# Altium schematic symbol library A.Shelestov_Batteries.SchLib: 3 symbols
Pins are listed as number, name and electrical type; pins without a type are passive.

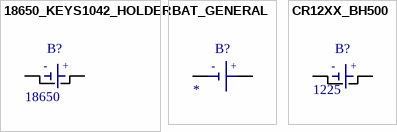
[diagram p0: symbols 18650_KEYS1042_HOLDER to CR12XX_BH500]

## 18650_KEYS1042_HOLDER
designator B?  Size: 18650
18650 Li-ion Battery Holder; Price: None; PriceKosmodromUAH: 19,5; Kosmodrom: http://www.kosmodrom.com.ua/el.php?name=KEYS1042
footprint 18650-COMBI
footprint 18650-KEYSTONE-1042
pins: NEG, POS
text: -; +

## BAT_GENERAL
designator B?
Coin Cell Battery 3V 12 X 2.5 mm 48mA; MP: BR1225; MF: Panasonic Battery; Availability: Unavailable; Price: None; SnapEDA_Link: https://www.snapeda.com/parts/BR1225/Panasonic/view-part/?ref=snap; Package: Panasonic Battery; Size: *
footprint 18650-COMBI
footprint 18650-KEYSTONE-1042
footprint BC2001-CR2032
footprint BH500-CR1216/20/25-COMB
footprint BR1225_HORIZ
pins: NEG, POS
text: -; +

## CR12XX_BH500
designator B?  Size: 1225
Coin Cell Battery 3V 12 X 2.5 mm 48mA Holder; MP: BR1225; MF: Panasonic Battery; Availability: Unavailable; Price: None; SnapEDA_Link: https://www.snapeda.com/parts/BR1225/Panasonic/view-part/?ref=snap; Package: Panasonic Battery; PriceKosmodromUAH: 8,25; Kosmodrom: http://www.kosmodrom.com.ua/el.php?name=BH500
footprint BH500-CR1216/20/25-COMB
pins: NEG, POS
text: -; +